# EAGLE library part STM32G4-48 (library Bits_library_eagle 9x)
STM32F4, 64 pin package According to STM32F40x datasheet, compatible with STM32F4xx, STM32F2xx. Also compatible with STM32F10x, if VCAP1 and VCAP2 are connected directly to VSS.
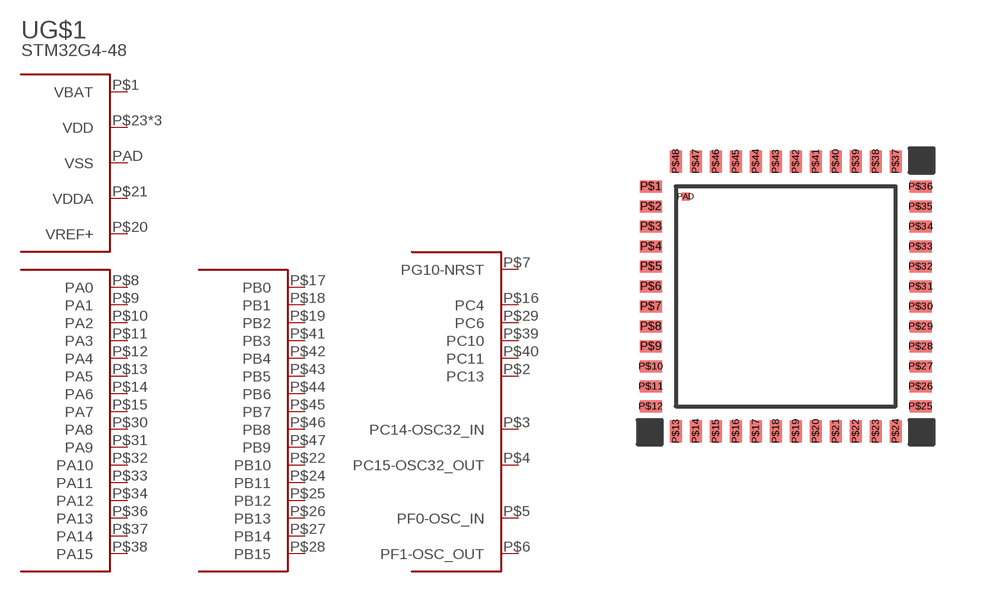
[diagram p75: symbol with the pads of QFN48; footprint QFN48]

Designator prefix U; gates G$1=STM32-SUPPLY-48G G$3=STM32-PORTB-48OLD G$2=STM32-PORTA-48OLD G$4=STM32-MISC-48G

## STM32G4-48  [QFN48]
P$1  G$1:VBAT  pwr
P$2  G$4:PC13
P$3  G$4:PC14-OSC32_IN
P$4  G$4:PC15-OSC32_OUT
P$5  G$4:PF0-OSC_IN
P$6  G$4:PF1-OSC_OUT
P$7  G$4:PG10-NRST
P$8  G$2:PA0
P$9  G$2:PA1
P$10  G$2:PA2
P$11  G$2:PA3
P$12  G$2:PA4
P$13  G$2:PA5
P$14  G$2:PA6
P$15  G$2:PA7
P$16  G$4:PC4
P$17  G$3:PB0
P$18  G$3:PB1
P$19  G$3:PB2
P$20  G$1:VREF+  pwr
P$21  G$1:VDDA  pwr
P$22  G$3:PB10
P$23  G$1:VDD  pwr
P$24  G$3:PB11
P$25  G$3:PB12
P$26  G$3:PB13
P$27  G$3:PB14
P$28  G$3:PB15
P$29  G$4:PC6
P$30  G$2:PA8
P$31  G$2:PA9
P$32  G$2:PA10
P$33  G$2:PA11
P$34  G$2:PA12
P$35  G$1:VDD  pwr
P$36  G$2:PA13
P$37  G$2:PA14
P$38  G$2:PA15
P$39  G$4:PC10
P$40  G$4:PC11
P$41  G$3:PB3
P$42  G$3:PB4
P$43  G$3:PB5
P$44  G$3:PB6
P$45  G$3:PB7
P$46  G$3:PB8
P$47  G$3:PB9
P$48  G$1:VDD  pwr
PAD  G$1:VSS  pwr

## Footprint QFN48 (pad centres in mm)
48-pin QFN 7 x 7 mm LF48 48 Quad Flat Package No Leads Source: http://v4.cypress.com/cfuploads/img/products/cywusb6934.pdf
smd 0.55 x 0.3: P$1 -3.375,2.75; P$2 -3.375,2.25; P$3 -3.375,1.75; P$4 -3.375,1.25; P$5 -3.375,0.75; P$6 -3.375,0.25; P$7 -3.375,-0.25; P$8 -3.375,-0.75; P$9 -3.375,-1.25; P$10 -3.375,-1.75; P$11 -3.375,-2.25; P$12 -3.375,-2.75; P$25 3.375,-2.75; P$26 3.375,-2.25; P$27 3.375,-1.75; P$28 3.375,-1.25; P$29 3.375,-0.75; P$30 3.375,-0.25; P$31 3.375,0.25; P$32 3.375,0.75; P$33 3.375,1.25; P$34 3.375,1.75; P$35 3.375,2.25; P$36 3.375,2.75
smd 0.3 x 0.55: P$13 -2.75,-3.375; P$14 -2.25,-3.375; P$15 -1.75,-3.375; P$16 -1.25,-3.375; P$17 -0.75,-3.375; P$18 -0.25,-3.375; P$19 0.25,-3.375; P$20 0.75,-3.375; P$21 1.25,-3.375; P$22 1.75,-3.375; P$23 2.25,-3.375; P$24 2.75,-3.375; P$37 2.75,3.375; P$38 2.25,3.375; P$39 1.75,3.375; P$40 1.25,3.375; P$41 0.75,3.375; P$42 0.25,3.375; P$43 -0.25,3.375; P$44 -0.75,3.375; P$45 -1.25,3.375; P$46 -1.75,3.375; P$47 -2.25,3.375; P$48 -2.75,3.375
smd 0.2 x 0.2: PAD -2.5,2.5